# Altium schematic symbol library DC_converter_sch.SchLib: 31 symbols
Pins are listed as number, name and electrical type; pins without a type are passive.

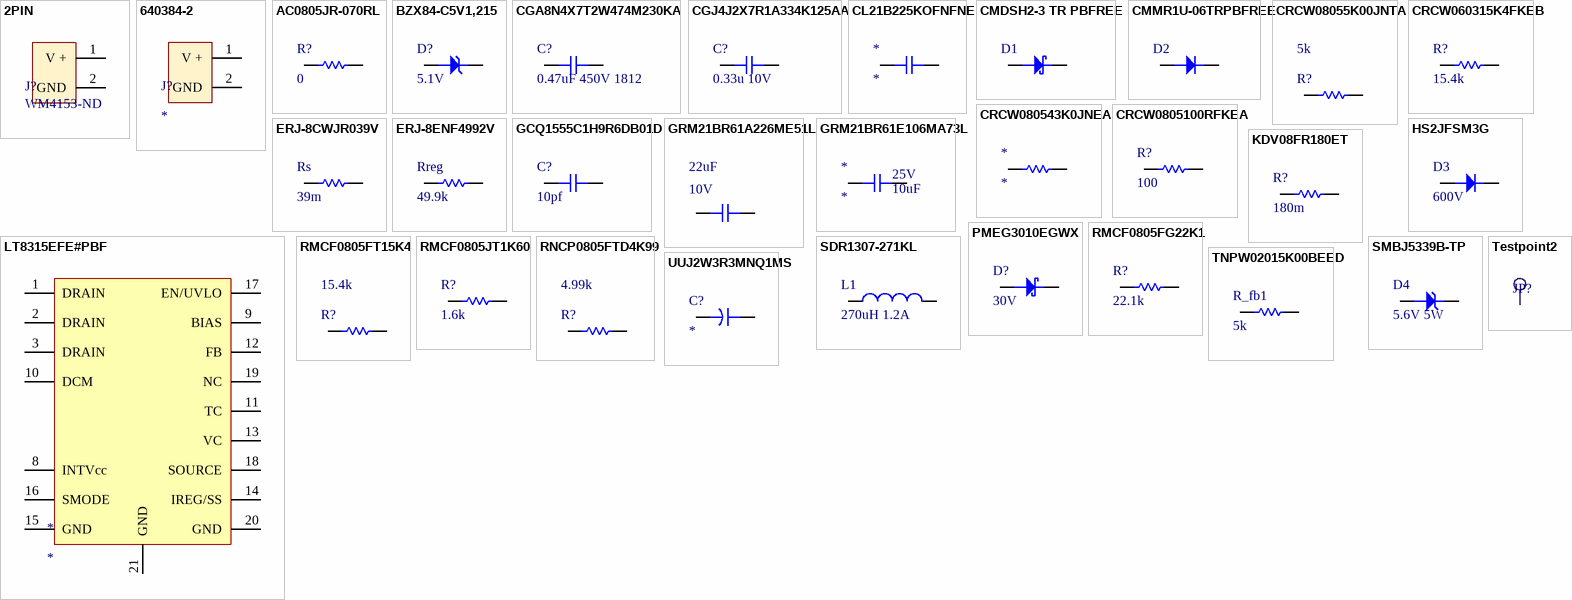
[diagram p0: symbols 2PIN to UUJ2W3R3MNQ1MS]

## 2PIN
designator J?, comment WM4153-ND
CONN HEADER R/A 2POS 2.54MM; Manufacturer: Molex; Manufacturer Part Number: 0705530106; Number of Positions: 2; Contact Resistance: 30mR; Connector Type: Male Pin; Supplier 1: Digi-Key; Stock 1: 2224; Pricing 1: 1=1.38, 10=1.25, 100=1.071, 500=0.8925, 1000=0.765, 5000=0.6783, 10000=0.663 (USD); Mount: Through Hole; Housing Material: Polyester; Contact Plating: Gold; Contact Material: Bronze; Color: Black; Housing Color: Black; Min Operating Temperature: -40°C; Max Operating Temperature: 105°C; Number of Rows: 1; Packaging: Rail/Tube; Termination: Solder; Number of Contacts: 2; Orientation: Right Angle; Length: 7.37mm; Pitch: 2.54mm; Depth: 13.59mm; Contact Mating Length: 0.24inch; ComponentLink1URL: http://www.molex.com/webdocs/datasheets/pdf/en-us/0705530106_PCB_HEADERS.pdf?src-supplier=Avnet+Asia; ComponentLink1Description: http://www.molex.com/webdocs/datasheets/pdf/en-us/0705530106_PCB_HEADERS.pdf?src-supplier=Avnet+Asia; ComponentLink2URL: https://www.molex.com/pdm_docs/ps/PS-70400.pdf?src-supplier=Digi-Key; ComponentLink2Description: https://www.molex.com/pdm_docs/ps/PS-70400.pdf?src-supplier=Digi-Key; Supplier Part Number 1: WM4153-ND
footprint 2PIN
pins: 1 V +, 2 GND

## 640384-2
designator J?
WIRE-BOARD CONNECTOR, HEADER, 2 POSITION, 0.156IN; Product Range:MTA-156 Series; Contact Termination Type:Through Hole; Gender:Header; No. of Contacts:2; Pitch Spacing:3.96mm; Contact Plating:Tin Plated Contacts; No. of Rows:1 ;RoHS Compliant: Yes; Manufacturer: TE Connectivity; Manufacturer Part Number: 640384-2; Underplate Material: Nickel; Current Rating: 7A; Voltage Rating: 600V; Number of Positions: 2; Connector Type: Pin; Connector System: Wire-to-Board; Contact Retention: No (Without); PCB Mount Retention: Without; Gender: Male; Contact Resistance: 3mR; Circuit Application: Power; PCB Mounting Orientation: Vertical; Pitch: 0.156inch; Contact Post Length: 3.18mm; PCB Thickness: 0.063inch; Approvals: CSA; Supplier 1: Digi-Key; RoHS: Yes; Category: Power Connectors; Stock 1: 1530; Pricing 1: 1=0.40000, 10=0.34400, 100=0.26720, 500=0.22904, 1000=0.19086, 5000=0.16360, 10000=0.15269 (USD); Mount: Through Hole; Color: Natural; Housing Color: White; Housing Material: Polyester; Contact Plating: Tin; Contact Material: Copper Alloy; Min Operating Temperature: -67°C; Max Operating Temperature: 221°C; Packaging: Bulk; Number of Rows: 1; Package Quantity: 2000; Max Voltage Rating (AC): 600V; Termination: Solder; Number of Contacts: 2; Orientation: Straight; Mating Alignment: No (Without); Mating Retention: No (Without); PCB Mount Alignment: No (Without); Sealable: No (Without); Strain Relief: No (Without); Contact Current Rating: 7A; Series: MTA-156; Contact Type: Male Pin; Shrouded: No (Without); Contact Gender: Male; Voltage Rating (AC): 600V; Backwall/Post Interruptions: No (Without); Number of Power Positions: 2; Length: 0.312inch; Depth: 6.35mm; Contact Mating Length: 0.4inch; Radiation Hardening: No; Flammability Rating: UL94 V-0; ELV: Compliant; Lead Free: Lead Free; RoHS Compliant: Yes; ComponentLink1URL: https://datasheet.ciiva.com/709/eng-cd-640384-ab-709714.pdf?src-supplier=Digi-Key; ComponentLink1Description: https://datasheet.ciiva.com/709/eng-cd-640384-ab-709714.pdf?src-supplier=Digi-Key; ComponentLink2URL: https://datasheet.ciiva.com/16408/eng-ds-82056-mta-0608-16408667.pdf?src-supplier=Future+Electronics; ComponentLink2Description: https://datasheet.ciiva.com/16408/eng-ds-82056-mta-0608-16408667.pdf?src-supplier=Future+Electronics; ComponentLink3URL: https://datasheet.ciiva.com/30155/8852eng-ds-82056-mta-0608-30155655.pdf?src-supplier=Onlinecomponents.com; ComponentLink3Description: https://datasheet.ciiva.com/30155/8852eng-ds-82056-mta-0608-30155655.pdf?src-supplier=Onlinecomponents.com; Supplier Part Number 1: A26168-ND
footprint Header
pins: 1 V +, 2 GND

## AC0805JR-070RL
designator R?, comment 0
Fixed Resistor, Metal Glaze/thick Film, 0.125W, 0ohm, Surface Mount, 0805; Manufacturer: Yageo; Manufacturer Part Number: AC0805JR-070RL; Power Rating: 125mW; Tolerance: 5%; Voltage Rating: 150V; Resistance: 0R; Temperature Coefficient: 200ppm/°C; Supplier 1: Digi-Key; RoHS: Yes; Category: Chip SMD Resistors; Stock 1: 12402; Pricing 1: 1=0.10000, 10=0.03700, 25=0.02680, 50=0.02040, 100=0.01500, 250=0.01148, 500=0.00918, 1000=0.00676 (USD); Case/Package: 0805; Case Code (Imperial): 0805; Case Code (Metric): 2012; Min Operating Temperature: -55°C; Max Operating Temperature: 155°C; Packaging: Tape and Reel; Resistor Type: Thick Film; Termination: SMD/SMT; Number of Terminations: 2; Max Power Dissipation: 125mW; Features: Moisture Resistant,Automotive AEC-Q200; Series: AC; Length: 0.079inch; Width: 1.25mm; Height: 0.024inch; Lead Free: Lead Free; ComponentLink1URL: http://www.yageo.com/NewPortal/yageodocoutput?fileName=/pdf/R-Chip/PYu-AC_51_RoHS_L_6.pdf&src-supplier=Digi-Key; ComponentLink1Description: http://www.yageo.com/NewPortal/yageodocoutput?fileName=/pdf/R-Chip/PYu-AC_51_RoHS_L_6.pdf&src-supplier=Digi-Key; ComponentLink2URL: http://www.yageo.com/documents/recent/PYu-AC_51_RoHS_L_2.pdf?src-supplier=Mouser; ComponentLink2Description: http://www.yageo.com/documents/recent/PYu-AC_51_RoHS_L_2.pdf?src-supplier=Mouser; Supplier Part Number 1: YAG3755CT-ND
footprint RES-0805 (Chip Resistor, 2-Leads, Body 2.00x1.25mm, IPC Medium Density)
pins: 1, 2

## BZX84-C5V1,215
designator D?, comment 5.1V
Zener Diode Single 5.1V 5% 60Ohm 250mW Automotive 3-Pin SOT-23 T/R; Manufacturer: Nexperia; Manufacturer Part Number: BZX84-C5V1,215; Supplier 1: Digi-Key; RoHS: Yes; Stock 1: 23070; Pricing 1: 1=0.14000, 10=0.12900, 100=0.07000, 500=0.04308, 1000=0.02937 (USD); RoHS Compliant: Yes; ComponentLink1URL: http://www.farnell.com/datasheets/2242065.pdf?src-supplier=Farnell; ComponentLink1Description: http://www.farnell.com/datasheets/2242065.pdf?src-supplier=Farnell; ComponentLink2URL: https://assets.nexperia.com/documents/data-sheet/BZX84_SER.pdf?src-supplier=Digi-Key; ComponentLink2Description: https://assets.nexperia.com/documents/data-sheet/BZX84_SER.pdf?src-supplier=Digi-Key; Supplier Part Number 1: 1727-2939-1-ND
footprint SOT95P230X110-3N (SOT23, 3-Leads, Body 2.90x2.30mm, Pitch 0.95mm, IPC Medium Density)
pins: 1, 2

## CGA8N4X7T2W474M230KA
designator C?, comment 0.47uF 450V 1812
Automotive Grade MLCC, 1812, X7T, 450V, 0.47 F, 20%, 2.30mm; Manufacturer: TDK; Manufacturer Part Number: CGA8N4X7T2W474M230KA; Capacitance: 470nF; Supplier 1: Digi-Key; RoHS: Yes; Category: Ceramic Capacitors; Stock 1: 1741; Pricing 1: 1=1.20000, 10=0.94400, 50=0.81800, 100=0.70780 (USD); Mount: Surface Mount; Case/Package: 1812; Case Code (Metric): 4532; Case Code (Imperial): 1812; Min Operating Temperature: -55°C; Max Operating Temperature: 125°C; Package Quantity: 500; Packaging: Tape and Reel; Tolerance: 20%; Voltage Rating: 450V; Series: CGA; Length: 0.177inch; Width: 0.126inch; Thickness: 0.098inch; Ratings: AEC-Q200; ComponentLink1URL: https://product.tdk.com/info/en/documents/chara_sheet/CGA8N4X7T2W474M230KA.pdf?src-supplier=Digi-Key; ComponentLink1Description: https://product.tdk.com/info/en/documents/chara_sheet/CGA8N4X7T2W474M230KA.pdf?src-supplier=Digi-Key; ComponentLink2URL: https://product.tdk.com/info/en/catalog/spec/mlccspec_automotive_general_midvoltage_en.pdf?src-supplier=Digi-Key; ComponentLink2Description: https://product.tdk.com/info/en/catalog/spec/mlccspec_automotive_general_midvoltage_en.pdf?src-supplier=Digi-Key; ComponentLink3URL: http://product.tdk.com/en/catalog/datasheets/mlcc_automotive_midvoltage_en.pdf?src-supplier=Avnet; ComponentLink3Description: http://product.tdk.com/en/catalog/datasheets/mlcc_automotive_midvoltage_en.pdf?src-supplier=Avnet; Supplier Part Number 1: 445-13132-1-ND
footprint CAPC4532X28N (Chip Capacitor, 2-Leads, Body 4.50x3.20mm, IPC Medium Density)
pins: 1, 2

## CGJ4J2X7R1A334K125AA
designator C?, comment 0.33u 10V
CAP CER 0.33UF 10V X7R 0805; Manufacturer: TDK; Manufacturer Part Number: CGJ4J2X7R1A334K125AA; Capacitance: 330nF; Tolerance: 10%; Ratings: COTS; Supplier 1: Digi-Key; RoHS: Yes; Category: Ceramic Capacitors; Stock 1: 991; Pricing 1: 1=0.37000, 10=0.26000, 50=0.18220, 100=0.15610, 500=0.11706, 1000=0.09886 (USD); Mount: Surface Mount; Case/Package: 0805; Case Code (Imperial): 0805; Case Code (Metric): 2012; Weight: 0.000194oz; Min Operating Temperature: -55°C; Max Operating Temperature: 125°C; Voltage Rating: 10V; Packaging: Tape and Reel; Termination: SMD/SMT; Series: CGJ; Voltage Rating (DC): 10V; Package Quantity: 1; Dielectric: X7R; Resistor Type: Ceramic; Length: 2mm; Width: 1.2mm; Height: 1.25mm; Thickness: 0.057inch; Depth: 1.25mm; Radiation Hardening: No; RoHS Compliant: Yes; ComponentLink1URL: https://datasheet.ciiva.com/15192/getdatasheetpartid-715821-15192531.pdf?src-supplier=Verical; ComponentLink1Description: https://datasheet.ciiva.com/15192/getdatasheetpartid-715821-15192531.pdf?src-supplier=Verical; Supplier Part Number 1: 445-8191-1-ND
footprint CAP-0805 (Chip Capacitor, 2-Leads, Body 2.00x1.25mm, IPC Medium Density)
pins: 1, 2

## CL21B225KOFNFNE
designator *
Cap Ceramic 2.2uF 16V X7R 10% SMD 0805 125C Embossed T/R; Manufacturer: Samsung; Manufacturer Part Number: CL21B225KOFNFNE; Supplier 1: Digi-Key; RoHS: Yes; Category: Ceramic Capacitors; Stock 1: 143505; Pricing 1: 1=0.16000, 10=0.11500, 50=0.06520, 100=0.05400, 500=0.03784, 1000=0.03133 (USD); Mount: Surface Mount; Case/Package: 0805; Case Code (Metric): 2012; Case Code (Imperial): 0805; Contact Plating: Tin; Min Operating Temperature: -55°C; Max Operating Temperature: 125°C; Package Quantity: 1; Packaging: Tape and Reel; Capacitance: 2.2uF; Tolerance: 10%; Voltage Rating: 16V; Dielectric: X7R; Series: CL; Construction: Flat; Length: 0.079inch; Width: 0.049inch; Height: 1.25mm; Thickness: 0.053inch; Depth: 1.25mm; Radiation Hardening: No; RoHS Compliant: Yes; ComponentLink1URL: https://datasheet.ciiva.com/25713/cl21b225kofnfne-25713539.pdf?src-supplier=Digi-Key; ComponentLink1Description: https://datasheet.ciiva.com/25713/cl21b225kofnfne-25713539.pdf?src-supplier=Digi-Key; Supplier Part Number 1: 1276-2956-1-ND
footprint CAP-0805 (Chip Capacitor, 2-Leads, Body 2.00x1.25mm, IPC Medium Density)
pins: 1, 2

## CMDSH2-3 TR PBFREE
designator D1
Silicon SCHOTTKY Diode High Current 30V 1A 2-Pin SOD-323 Surface Mount T/R  https://my.centralsemi.com/datasheets/CMDSH2-3.PDF; Manufacturer: Central Semiconductor; Manufacturer Part Number: CMDSH2-3 TR PBFREE; Supplier 1: Digi-Key; RoHS: Yes; Stock 1: 40881; Pricing 1: 1=0.65000, 10=0.57200, 100=0.43830, 500=0.34650, 1000=0.27720 (USD); RoHS Compliant: Yes; Supplier Part Number 1: 1514-CMDSH2-3TRPBFREECT-ND
footprint D1
pins: 1, 2

## CMMR1U-06TRPBFREE
designator D2
Diode Switching 600V 1A Automotive 2-Pin SOD-123F T/R. https://my.centralsemi.com/datasheets/CMMR1U_SERIES.PDF; Manufacturer: Central Semiconductor; Manufacturer Part Number: CMMR1U-06TRPBFREE; Forward Voltage: 1.7V; Peak Non-Repetitive Surge Current: 30A; Element Configuration: Single; Supplier 1: Digi-Key; RoHS: Yes; Category: Uncategorized; Stock 1: 10653; Pricing 1: 1=0.82000, 10=0.72600, 100=0.55660, 500=0.44000, 1000=0.35200 (USD); Mount: Surface Mount; Case/Package: SOD; Number of Pins: 2; Min Operating Temperature: -65°C; Max Operating Temperature: 150°C; Packaging: Tape and Reel; Radiation Hardening: No; RoHS Compliant: Yes; ComponentLink1URL: https://datasheet.ciiva.com/26939/getdatasheetpartid-707878-26939601.pdf?src-supplier=Verical; ComponentLink1Description: https://datasheet.ciiva.com/26939/getdatasheetpartid-707878-26939601.pdf?src-supplier=Verical; Supplier Part Number 1: 1514-CMMR1U-06TRPBFREECT-ND
footprint SODFL375X108-2N (SODFL, 2-Leads, Body 1.80x3.75mm, IPC Medium Density)
pins: 1, 2

## CRCW08055K00JNTA
designator R?  Resistance: 5k  (hidden comment: *)
Res SMD 5K Ohm 5% 1/8W 0805; Manufacturer: Vishay Dale; Manufacturer Part Number: CRCW08055K00JNTA; Power Rating: 125mW; Voltage Rating: 150V; Temperature Coefficient: 200ppm/°C; Supplier 1: Digi-Key; RoHS: No; Category: Chip SMD Resistors; Stock 1: 3439; Pricing 1: 1=0.14000, 10=0.12100, 100=0.04660, 1000=0.02049, 2500=0.01770 (USD); Case/Package: 0805; Weight: 0.000194oz; Case Code (Imperial): 0805; Case Code (Metric): 2012; Min Operating Temperature: -55°C; Max Operating Temperature: 155°C; Tolerance: 5%; Packaging: Tape and Reel; Package Quantity: 5000; Resistor Type: Thick Film; Number of Terminations: 2; Termination: SMD/SMT; Max Power Dissipation: 125mW; Features: Automotive AEC-Q200; Series: CRCW; Length: 0.079inch; Width: 0.049inch; Height: 0.02inch; Lead Free: Contains Lead; RoHS Compliant: No; ComponentLink1URL: http://www.mouser.com/ds/2/427/dcrcw-72725.pdf?src-supplier=Mouser; ComponentLink1Description: http://www.mouser.com/ds/2/427/dcrcw-72725.pdf?src-supplier=Mouser; ComponentLink2URL: http://www.vishay.com/docs/20008/dcrcw.pdf?src-supplier=Digi-Key; ComponentLink2Description: http://www.vishay.com/docs/20008/dcrcw.pdf?src-supplier=Digi-Key; Supplier Part Number 1: 541-CRCW08055K00JNTACT-ND
footprint RES-0805 (Chip Resistor, 2-Leads, Body 2.00x1.25mm, IPC Medium Density)
pins: 1, 2

## CRCW060315K4FKEB
designator R?, comment 15.4k
Thick Film Resistors 1/10watt 15.4Kohms 1%; Manufacturer: Vishay Dale; Manufacturer Part Number: CRCW060315K4FKEB; Resistance: 15.4kR; Power Rating: 100mW; Voltage Rating: 75V; Temperature Coefficient: 100ppm/°C; Supplier 1: Digi-Key; RoHS: Yes; Category: Chip SMD Resistors; Pricing 1: 1=0.10000, 10=0.03800, 100=0.01560, 1000=0.00701, 2500=0.00608, 5000=0.00503 (USD); Case/Package: 0603; Weight: 7.1E-05oz; Case Code (Imperial): 0603; Case Code (Metric): 1608; Min Operating Temperature: -55°C; Max Operating Temperature: 155°C; Tolerance: 1%; Packaging: Tape and Reel; Package Quantity: 10000; Resistor Type: Thick Film; Number of Terminations: 2; Termination: SMD/SMT; Max Power Dissipation: 100mW; Features: Automotive AEC-Q200; Series: CRCW; Length: 0.061inch; Width: 0.033inch; Height: 0.02inch; RoHS Compliant: Yes; Lead Free: Lead Free; ComponentLink1URL: https://datasheet.ciiva.com/5544/dcrcwe3-109170-5544853.pdf?src-supplier=Mouser; ComponentLink1Description: https://datasheet.ciiva.com/5544/dcrcwe3-109170-5544853.pdf?src-supplier=Mouser; Supplier Part Number 1: 541-CRCW060315K4FKEBDKR-ND
footprint CRCW060315K4FKEB (Chip Resistor, 2-Leads, Body 1.58x0.85mm, IPC Medium Density)
pins: 1, 2

## CRCW080543K0JNEA
designator *
Res Thick Film 0805 43K Ohm 5% 0.125W(1/8W) ±200ppm/C Molded SMD Automotive Paper T/R; Manufacturer: Vishay Dale; Manufacturer Part Number: CRCW080543K0JNEA; Resistance: 43kR; Temperature Coefficient: 200ppm/°C; Max Power Dissipation: 125mW; Voltage Rating: 150V; Supplier 1: Digi-Key; RoHS: Yes; Category: Chip SMD Resistors; Stock 1: 6239; Pricing 1: 1=0.10000, 10=0.05000, 100=0.02040, 1000=0.00914, 2500=0.00794 (USD); Case/Package: 0805; Number of Pins: 2; Weight: 0.000194oz; Case Code (Imperial): 0805; Case Code (Metric): 2012; Contact Plating: Tin; Size Code: 0805; Min Operating Temperature: -55°C; Max Operating Temperature: 155°C; Tolerance: 5%; Packaging: Tape and Reel; Package Quantity: 5000; Resistor Type: Thick Film; Features: Automotive AEC-Q200; Series: CRCW; Number of Terminations: 2; Power Rating: 125mW; Voltage Rating (DC): 150V; Resistance Tolerance: 5%; Construction: Rectangular; Length: 2mm; Width: 1.25mm; Height: 0.45mm; Depth: 1.25mm; Lead Free: Lead Free; RoHS Compliant: Yes; REACH SVHC: Unknown; Military Standard: Not; ComponentLink1URL: https://datasheet.ciiva.com/9008/dcrcwe3-9008904.pdf?src-supplier=Avnet; ComponentLink1Description: https://datasheet.ciiva.com/9008/dcrcwe3-9008904.pdf?src-supplier=Avnet; Supplier Part Number 1: 541-43KACT-ND
footprint RESC2012X05N (Chip Resistor, 2-Leads, Body 2.05x1.25mm, IPC Medium Density)
pins: 1, 2

## CRCW0805100RFKEA
designator R?, comment 100
Res Thick Film 0805 100 Ohm 1% 1/8W ±100ppm/°C Molded SMD Paper T/R; Manufacturer: Vishay Dale; Manufacturer Part Number: CRCW0805100RFKEA; Resistance: 100R; Power Rating: 125mW; Voltage Rating: 150V; Supplier 1: Digi-Key; RoHS: Yes; Category: Chip SMD Resistors; Stock 1: 14649; Pricing 1: 1=0.10000, 10=0.06700, 100=0.02710, 1000=0.01219, 2500=0.01058 (USD); Mount: Surface Mount; Case/Package: 0805; Number of Pins: 2; Contact Plating: Tin; Weight: 0.000194oz; Case Code (Metric): 2012; Case Code (Imperial): 0805; Size Code: 0805; Min Operating Temperature: -55°C; Max Operating Temperature: 155°C; Tolerance: 1%; Resistor Type: Thick Film; Temperature Coefficient: 100ppm/°C; Package Quantity: 10; Packaging: Tape and Reel; Number of Terminations: 2; Termination: SMD/SMT; Max Power Dissipation: 125mW; Voltage Rating (DC): 150V; Features: Automotive AEC-Q200; Series: CRCW; Technology: THICK FILM; Construction: Rectangular; Resistance Tolerance: 1%; Length: 2mm; Width: 0.049inch; Height: 0.45mm; Depth: 1.25mm; Radiation Hardening: No; Lead Free: Lead Free; RoHS Compliant: Yes; REACH SVHC: Unknown; Military Standard: Not; ComponentLink1URL: https://datasheet.ciiva.com/11809/0900766b80d98b26-11809126.pdf?src-supplier=RSComponents; ComponentLink1Description: https://datasheet.ciiva.com/11809/0900766b80d98b26-11809126.pdf?src-supplier=RSComponents; ComponentLink2URL: https://datasheet.ciiva.com/2495/dcrcwe3-2495843.pdf?src-supplier=Digi-Key; ComponentLink2Description: https://datasheet.ciiva.com/2495/dcrcwe3-2495843.pdf?src-supplier=Digi-Key; ComponentLink3URL: https://datasheet.ciiva.com/2495/dcrcwe3-2495844.pdf?src-supplier=Digi-Key; ComponentLink3Description: https://datasheet.ciiva.com/2495/dcrcwe3-2495844.pdf?src-supplier=Digi-Key; ComponentLink4URL: https://datasheet.ciiva.com/5546/dcrcwe3-109170-5546700.pdf?src-supplier=Mouser; ComponentLink4Description: https://datasheet.ciiva.com/5546/dcrcwe3-109170-5546700.pdf?src-supplier=Mouser; ComponentLink5URL: https://datasheet.ciiva.com/3258/dcrcwe3-3258011.pdf?src-supplier=Avnet; ComponentLink5Description: https://datasheet.ciiva.com/3258/dcrcwe3-3258011.pdf?src-supplier=Avnet; ComponentLink6URL: https://datasheet.ciiva.com/8337/dcrcwe3-8337753.pdf?src-supplier=Avnet; ComponentLink6Description: https://datasheet.ciiva.com/8337/dcrcwe3-8337753.pdf?src-supplier=Avnet; ComponentLink7URL: https://datasheet.ciiva.com/2495/dcrcwe3-2495842.pdf?src-supplier=Digi-Key; ComponentLink7Description: https://datasheet.ciiva.com/2495/dcrcwe3-2495842.pdf?src-supplier=Digi-Key; ComponentLink8URL: https://datasheet.ciiva.com/16514/dcrcwe3-16514904.pdf?src-supplier=Avnet+Asia; ComponentLink8Description: https://datasheet.ciiva.com/16514/dcrcwe3-16514904.pdf?src-supplier=Avnet+Asia; ComponentLink9URL: https://datasheet.ciiva.com/15159/getdatasheetpartid-90825-15159895.pdf?src-supplier=Verical; ComponentLink9Description: https://datasheet.ciiva.com/15159/getdatasheetpartid-90825-15159895.pdf?src-supplier=Verical; ComponentLink10URL: https://datasheet.ciiva.com/16760/70201119-16760940.pdf?src-supplier=Allied+Electronics; ComponentLink10Description: https://datasheet.ciiva.com/16760/70201119-16760940.pdf?src-supplier=Allied+Electronics; ComponentLink11URL: https://datasheet.ciiva.com/16777/70201119-16777129.pdf?src-supplier=Allied+Electronics; ComponentLink11Description: https://datasheet.ciiva.com/16777/70201119-16777129.pdf?src-supplier=Allied+Electronics; Supplier Part Number 1: 541-100CCT-ND
footprint RES-0805 (Chip Resistor, 2-Leads, Body 2.00x1.25mm, IPC Medium Density)
pins: 1, 2

## ERJ-8CWJR039V
designator Rs, comment 39m
Res Thick Film 1206 0.039 Ohm 5% 1W 50ppm/C Molded SMD SMD Punched Carrier T/R; Manufacturer: Panasonic; Manufacturer Part Number: ERJ-8CWJR039V; Resistance: 39mR; Temperature Coefficient: 75ppm/°C; Supplier 1: Digi-Key; RoHS: Yes; Category: Chip SMD Resistors; Stock 1: 4176; Pricing 1: 1=0.54000, 10=0.41700, 100=0.17540, 1000=0.09678, 2500=0.09074 (USD); Mount: Surface Mount; Case/Package: 1206; Case Code (Metric): 3216; Case Code (Imperial): 1206; Min Operating Temperature: -55°C; Max Operating Temperature: 125°C; Packaging: Tape and Reel; Power Rating: 1W; Tolerance: 5%; Resistor Type: Thick Film; Number of Terminations: 2; Max Power Dissipation: 1W; Features: Automotive AEC-Q200; Length: 0.126inch; Width: 0.063inch; Height: 0.03inch; ComponentLink1URL: https://media.digikey.com/pdf/Data%20Sheets/Panasonic%20Resistors%20Thermistors%20PDFs/ERJ-8CW_Series_LE.pdf?src-supplier=Digi-Key; ComponentLink1Description: https://media.digikey.com/pdf/Data%20Sheets/Panasonic%20Resistors%20Thermistors%20PDFs/ERJ-8CW_Series_LE.pdf?src-supplier=Digi-Key; ComponentLink2URL: http://www.mouser.com/ds/2/315/AOA0000C295-1109214.pdf?src-supplier=Mouser; ComponentLink2Description: http://www.mouser.com/ds/2/315/AOA0000C295-1109214.pdf?src-supplier=Mouser; ComponentLink3URL: http://www.onlinecomponents.com/datasheet/erj-8cwjr039v.aspx?p=44454211&src-supplier=Onlinecomponents.com; ComponentLink3Description: http://www.onlinecomponents.com/datasheet/erj-8cwjr039v.aspx?p=44454211&src-supplier=Onlinecomponents.com; ComponentLink4URL: https://industrial.panasonic.com/cdbs/www-data/pdf/RDN0000/AOA0000C313.pdf?src-supplier=Digi-Key; ComponentLink4Description: https://industrial.panasonic.com/cdbs/www-data/pdf/RDN0000/AOA0000C313.pdf?src-supplier=Digi-Key; ComponentLink5URL: http://industrial.panasonic.com/www-data/pdf/AOA0000/AOA0000CE3.pdf?src-supplier=Avnet; ComponentLink5Description: http://industrial.panasonic.com/www-data/pdf/AOA0000/AOA0000CE3.pdf?src-supplier=Avnet; Supplier Part Number 1: P0.039BWCT-ND; Supplier 2: Digi-Key; Stock 2: 4902; Pricing 2: 1=0.26000, 10=0.22000, 25=0.16000, 50=0.11600, 100=0.08600, 250=0.06600, 500=0.05200, 1000=0.03600 (USD); Supplier Part Number 2: 273-KDV06FR180ETCT-ND
footprint RESC3216X08N (Chip Resistor, 2-Leads, Body 3.20x1.60mm, IPC Medium Density)
pins: 1, 2

## ERJ-8ENF4992V
designator Rreg, comment 49.9k
RES SMD 49.9K OHM 1% 1/4W 1206; Manufacturer: Panasonic; Manufacturer Part Number: ERJ-8ENF4992V; Resistance: 49.9kR; Temperature Coefficient: 100ppm/°C; Voltage Rating: 200V; Power Rating: 250mW; Supplier 1: Digi-Key; RoHS: Yes; Category: Chip SMD Resistors; Stock 1: 75366; Pricing 1: 1=0.10000, 10=0.09300, 100=0.03560, 1000=0.01569, 2500=0.01355 (USD); Mount: Surface Mount; Case/Package: 1206; Contact Plating: Tin; Case Code (Metric): 3216; Case Code (Imperial): 1206; Min Operating Temperature: -55°C; Max Operating Temperature: 155°C; Tolerance: 1%; Resistor Type: Thick Film; Packaging: Tape and Reel; Package Quantity: 1; Number of Terminations: 2; Termination: SMD/SMT; Max Power Dissipation: 250mW; Voltage Rating (DC): 200V; Series: ERJ; Construction: Rectangular; Resistance Tolerance: 1%; Features: Automotive AEC-Q200; Length: 3.2mm; Width: 0.063inch; Height: 0.028inch; Depth: 1.6mm; Radiation Hardening: No; REACH SVHC: Unknown; Military Standard: Not; RoHS Compliant: Yes; Lead Free: Contains Lead; ComponentLink1URL: https://datasheet.ciiva.com/6064/426256-6064697.pdf?src-supplier=Farnell; ComponentLink1Description: https://datasheet.ciiva.com/6064/426256-6064697.pdf?src-supplier=Farnell; ComponentLink2URL: https://datasheet.ciiva.com/46377/426256-46377947.pdf?src-supplier=Element14; ComponentLink2Description: https://datasheet.ciiva.com/46377/426256-46377947.pdf?src-supplier=Element14; ComponentLink3URL: https://datasheet.ciiva.com/28548/1678782-28548377.pdf?src-supplier=Element14; ComponentLink3Description: https://datasheet.ciiva.com/28548/1678782-28548377.pdf?src-supplier=Element14; ComponentLink4URL: https://datasheet.ciiva.com/28694/1678782-28694249.pdf?src-supplier=Element14; ComponentLink4Description: https://datasheet.ciiva.com/28694/1678782-28694249.pdf?src-supplier=Element14; ComponentLink5URL: https://datasheet.ciiva.com/24026/aoa0000ce2-24026814.pdf?src-supplier=Mouser; ComponentLink5Description: https://datasheet.ciiva.com/24026/aoa0000ce2-24026814.pdf?src-supplier=Mouser; ComponentLink6URL: https://datasheet.ciiva.com/16772/70260748-16772229.pdf?src-supplier=Allied+Electronics; ComponentLink6Description: https://datasheet.ciiva.com/16772/70260748-16772229.pdf?src-supplier=Allied+Electronics; ComponentLink7URL: https://datasheet.ciiva.com/16724/70260748-16724652.pdf?src-supplier=Allied+Electronics; ComponentLink7Description: https://datasheet.ciiva.com/16724/70260748-16724652.pdf?src-supplier=Allied+Electronics; ComponentLink8URL: https://datasheet.ciiva.com/9189/aoa0000ce2-9189145.pdf?src-supplier=Avnet; ComponentLink8Description: https://datasheet.ciiva.com/9189/aoa0000ce2-9189145.pdf?src-supplier=Avnet; ComponentLink9URL: https://datasheet.ciiva.com/30219/aoa0000ce2-30219902.pdf?src-supplier=Onlinecomponents.com; ComponentLink9Description: https://datasheet.ciiva.com/30219/aoa0000ce2-30219902.pdf?src-supplier=Onlinecomponents.com; ComponentLink10URL: https://datasheet.ciiva.com/17209/aoa0000ce2-17209499.pdf?src-supplier=Avnet+Europe; ComponentLink10Description: https://datasheet.ciiva.com/17209/aoa0000ce2-17209499.pdf?src-supplier=Avnet+Europe; ComponentLink11URL: https://datasheet.ciiva.com/16513/aoa0000ce2-16513653.pdf?src-supplier=Avnet+Asia; ComponentLink11Description: https://datasheet.ciiva.com/16513/aoa0000ce2-16513653.pdf?src-supplier=Avnet+Asia; Supplier Part Number 1: P49.9KFCT-ND
footprint RESC3115X07N (Chip Resistor, 2-Leads, Body 3.13x1.55mm, IPC Medium Density)
pins: 1, 2

## GCQ1555C1H9R6DB01D
designator C?, comment 10pf
CAP CER 0805 10PF 25V; Manufacturer: Murata; Manufacturer Part Number: GCQ1555C1H9R6DB01D; Supplier 1: Arrow Electronics; RoHS: Yes; Category: Ceramic Capacitors; Stock 1: 10000; Pricing 1: 1=0.14620, 10=0.10040, 25=0.09950, 100=0.05630, 250=0.05570, 500=0.03880, 1000=0.03350, 3000=0.03160, 6000=0.02890, 10000=0.05540 (USD); Supplier Part Number 1: GCQ1555C1H9R6DB01D
footprint CAP-0805 (Chip Capacitor, 2-Leads, Body 2.00x1.25mm, IPC Medium Density)
pins: 1, 2

## GRM21BR61A226ME51L
designator C?  Voltage Rating: 10V  Capacitance: 22uF  (hidden comment: *)
CAP, MLCC, X5R, 22UF, 10V, 0805; Manufacturer: Murata; Manufacturer Part Number: GRM21BR61A226ME51L; Tolerance: 20%; Supplier 1: Digi-Key; RoHS: Yes; Category: Ceramic Capacitors; Stock 1: 665311; Pricing 1: 1=0.28000, 10=0.19200, 50=0.12800, 100=0.10890, 500=0.07684, 1000=0.06723 (USD); Mount: Surface Mount; Case/Package: 0805; Case Code (Metric): 2012; Case Code (Imperial): 0805; Weight: 0.000335oz; Min Operating Temperature: -55°C; Max Operating Temperature: 85°C; Dielectric: X5R; Packaging: Tape and Reel; Termination: SMD/SMT; Voltage Rating (DC): 10V; Package Quantity: 3000; Length: 2mm; Width: 0.049inch; Height: 1.25mm; Thickness: 0.055inch; Depth: 1.25mm; Radiation Hardening: No; REACH SVHC: No SVHC; Lead Free: Lead Free; RoHS Compliant: Yes; ComponentLink1URL: http://www.farnell.com/datasheets/1955716.pdf?src-supplier=Farnell; ComponentLink1Description: http://www.farnell.com/datasheets/1955716.pdf?src-supplier=Farnell; ComponentLink2URL: http://www.mouser.com/ds/2/281/c02e-2905.pdf?src-supplier=Mouser; ComponentLink2Description: http://www.mouser.com/ds/2/281/c02e-2905.pdf?src-supplier=Mouser; ComponentLink3URL: http://components.arrow.com/part/dataview/0323_06961245?src-supplier=Arrow+Europe; ComponentLink3Description: http://components.arrow.com/part/dataview/0323_06961245?src-supplier=Arrow+Europe; ComponentLink4URL: http://psearch.en.murata.com/capacitor/product/GRM21BR61A226ME51%23.html?src-supplier=Avnet; ComponentLink4Description: http://psearch.en.murata.com/capacitor/product/GRM21BR61A226ME51%23.html?src-supplier=Avnet; ComponentLink5URL: http://search.murata.co.jp/Ceramy/image/img/A01X/G101/ENG/GRM21BR61A226ME51-01.pdf?src-supplier=Digi-Key; ComponentLink5Description: http://search.murata.co.jp/Ceramy/image/img/A01X/G101/ENG/GRM21BR61A226ME51-01.pdf?src-supplier=Digi-Key; ComponentLink6URL: http://www.farnell.com/datasheets/1955716.pdf?src-supplier=Newark; ComponentLink6Description: http://www.farnell.com/datasheets/1955716.pdf?src-supplier=Newark; ComponentLink7URL: http://www.farnell.com/datasheets/1955716.pdf?src-supplier=Element14; ComponentLink7Description: http://www.farnell.com/datasheets/1955716.pdf?src-supplier=Element14; Supplier Part Number 1: 490-10511-1-ND
footprint CAP-0805 (Chip Capacitor, 2-Leads, Body 2.00x1.25mm, IPC Medium Density)
pins: 1, 2

## GRM21BR61E106MA73L
designator *  Voltage Rating: 25V  Capacitance: 10uF
Capacitor, 10 µF, 25 V, 0805 [2012 Metric], ± 20%, X5R, GRM Series; Manufacturer: Murata; Manufacturer Part Number: GRM21BR61E106MA73L; Supplier 1: Digi-Key; RoHS: Yes; Category: Ceramic Capacitors; Stock 1: 357812; Pricing 1: 1=0.26000, 10=0.17900, 50=0.11960, 100=0.10170, 500=0.07176, 1000=0.06279 (USD); Mount: Surface Mount; Case/Package: 0805; Case Code (Metric): 2012; Case Code (Imperial): 0805; Weight: 0.000335oz; Min Operating Temperature: -55°C; Max Operating Temperature: 85°C; Tolerance: 20%; Packaging: Tape and Reel; Dielectric: X5R; Termination: SMD/SMT; Resistor Type: Ceramic; Voltage Rating (DC): 25V; Package Quantity: 3000; Length: 2mm; Width: 0.049inch; Height: 1.25mm; Thickness: 0.055inch; Depth: 1.25mm; REACH SVHC: No SVHC; Lead Free: Lead Free; RoHS Compliant: Yes; ComponentLink1URL: http://www.farnell.com/datasheets/2079185.pdf?src-supplier=Farnell; ComponentLink1Description: http://www.farnell.com/datasheets/2079185.pdf?src-supplier=Farnell; ComponentLink2URL: http://www.mouser.com/ds/2/281/c02e-2905.pdf?src-supplier=Mouser; ComponentLink2Description: http://www.mouser.com/ds/2/281/c02e-2905.pdf?src-supplier=Mouser; ComponentLink3URL: http://components.arrow.com/part/dataview/0323_03061623?src-supplier=Arrow+Europe; ComponentLink3Description: http://components.arrow.com/part/dataview/0323_03061623?src-supplier=Arrow+Europe; ComponentLink4URL: https://search.murata.co.jp/Ceramy/image/img/A01X/G101/ENG/GRM21BR61E106MA73-01.pdf?src-supplier=Digi-Key; ComponentLink4Description: https://search.murata.co.jp/Ceramy/image/img/A01X/G101/ENG/GRM21BR61E106MA73-01.pdf?src-supplier=Digi-Key; ComponentLink5URL: http://www.farnell.com/datasheets/2079185.pdf?src-supplier=Element14; ComponentLink5Description: http://www.farnell.com/datasheets/2079185.pdf?src-supplier=Element14; Supplier Part Number 1: 490-10748-1-ND
footprint CAP-0805 (Chip Capacitor, 2-Leads, Body 2.00x1.25mm, IPC Medium Density)
pins: 1, 2

## HS2JFSM3G
designator D3, comment 600V
Manufacturer: Taiwan Semiconductor; Manufacturer Part Number: HS2JFSM3G; Supplier 1: DigiKey; RoHS: No; Stock 1: 3460; Pricing 1: 1=0.45000, 10=0.38700, 100=0.28900, 500=0.22704, 1000=0.17544 (USD); Supplier Part Number 1: 1801-HS2JFSM3GCT-ND
footprint D3
pins: 1, 2

## KDV08FR180ET
designator R?, comment 180m
0.18 Ohm 0805 1% 0.25W Rohs Compliant: Yes; Manufacturer: Ohmite; Manufacturer Part Number: KDV08FR180ET; Supplier 1: Digi-Key; RoHS: No; Category: Chip SMD Resistors; Stock 1: 15787; Pricing 1: 1=0.29000, 10=0.24200, 25=0.17600, 50=0.12760, 100=0.09460, 250=0.07260, 500=0.05720, 1000=0.03960 (USD); Supplier Part Number 1: 273-KDV08FR180ETCT-ND
footprint RES-0805 (Chip Resistor, 2-Leads, Body 2.00x1.25mm, IPC Medium Density)
pins: 1, 2

## LT8315EFE#PBF
designator *
IC REG CTRLR FLYBACK 20TSSOP; Manufacturer: Analog Devices / Linear Technology; Manufacturer Part Number: LT8315EFE#PBF; Supplier 1: Digi-Key; RoHS: Yes; Category: Voltage Regulators - Switching; Stock 1: 22; Pricing 1: 1=9.84000, 10=8.88800, 25=8.47480, 100=7.35850, 250=7.02780, 500=6.43500 (USD); RoHS Compliant: Yes; ComponentLink1URL: http://www.linear.com/docs/56703?src-supplier=Digi-Key; ComponentLink1Description: http://www.linear.com/docs/56703?src-supplier=Digi-Key; Supplier Part Number 1: LT8315EFE#PBF-ND
footprint TSOP65P650X120-20N (TSOP, 20-Leads, Body 6.50x4.40mm, Pitch 0.65mm, IPC Medium Density)
pins: 1 DRAIN, 2 DRAIN, 3 DRAIN, 8 INTVcc, 9 BIAS, 10 DCM, 11 TC, 12 FB, 13 VC, 14 IREG/SS, 15 GND, 16 SMODE, 17 EN/UVLO, 18 SOURCE, 19 NC, 20 GND, 21 GND

## PMEG3010EGWX
designator D?, comment 30V
Manufacturer: Nexperia; Manufacturer Part Number: PMEG3010EGWX; Supplier 1: Digi-Key; RoHS: Yes; Category: Schottky Diodes; Stock 1: 5980; Pricing 1: 1=0.31000, 10=0.25200, 100=0.13360, 500=0.08786, 1000=0.05975 (USD); RoHS Compliant: Yes; Supplier Part Number 1: 1727-7343-1-ND
footprint PMEG3010EGWX
pins: 1, 2

## RMCF0805FG22K1
designator R?, comment 22.1k
Res Thick Film 0805 22.1K Ohm 1% 1/8W 100ppm/C Molded SMD SMD Paper T/R; Manufacturer: Stackpole Electronics; Manufacturer Part Number: RMCF0805FG22K1; Resistance: 22.1kR; Max Power Dissipation: 125mW; Temperature Coefficient: 100ppm/°C; Supplier 1: Digi-Key; RoHS: Yes; Category: Chip SMD Resistors; Stock 1: 16110; Pricing 1: 1=0.10000, 10=0.02700, 100=0.01090, 1000=0.00488, 2500=0.00423, 5000=0.00350 (USD); Mount: Surface Mount; Case/Package: 0805; Case Code (Metric): 2012; Case Code (Imperial): 0805; Contact Plating: Tin,Matte; Min Operating Temperature: -55°C; Max Operating Temperature: 155°C; Package Quantity: 10000; Packaging: Tape and Reel; Tolerance: 1%; Resistor Type: Thick Film; Number of Terminations: 2; Features: Automotive AEC-Q200; Series: RMCF; Length: 0.079inch; Width: 0.049inch; Height: 0.026inch; Radiation Hardening: No; Lead Free: Lead Free; RoHS Compliant: Yes; ComponentLink1URL: https://www.seielect.com/catalog/SEI-RMCF_RMCP.pdf?src-supplier=Avnet; ComponentLink1Description: https://www.seielect.com/catalog/SEI-RMCF_RMCP.pdf?src-supplier=Avnet; ComponentLink2URL: http://www.seielect.com/Catalog/SEI-RMCF_RMCP.pdf?src-supplier=Digi-Key; ComponentLink2Description: http://www.seielect.com/Catalog/SEI-RMCF_RMCP.pdf?src-supplier=Digi-Key; ComponentLink3URL: https://www.seielect.com/catalog/SEI-Packaging.pdf?src-supplier=Digi-Key; ComponentLink3Description: https://www.seielect.com/catalog/SEI-Packaging.pdf?src-supplier=Digi-Key; ComponentLink4URL: https://www.seielect.com/Catalog/SEI-RMCF_RMCP.pdf?src-supplier=Digi-Key; ComponentLink4Description: https://www.seielect.com/Catalog/SEI-RMCF_RMCP.pdf?src-supplier=Digi-Key; Supplier Part Number 1: RMCF0805FG22K1CT-ND
footprint RESC2012X06N (21.1k)
pins: 1, 2

## RMCF0805FT15K4
designator R?  Resistance: 15.4k  (hidden comment: *)
RES 15.4K OHM 1% 1/8W 0805; Manufacturer: Stackpole Electronics; Manufacturer Part Number: RMCF0805FT15K4; Max Power Dissipation: 125mW; Temperature Coefficient: 100ppm/°C; Supplier 1: Digi-Key; RoHS: Yes; Category: Chip SMD Resistors; Stock 1: 4769; Pricing 1: 1=0.10000, 10=0.02700, 100=0.01090, 1000=0.00488, 2500=0.00423 (USD); Mount: Surface Mount; Case/Package: 0805; Case Code (Metric): 2012; Case Code (Imperial): 0805; Contact Plating: Tin,Matte; Min Operating Temperature: -55°C; Max Operating Temperature: 155°C; Tolerance: 1%; Packaging: Tape and Reel; Resistor Type: Thick Film; Number of Terminations: 2; Features: Automotive AEC-Q200; Series: RMCF; Construction: Rectangular; Length: 0.079inch; Width: 0.049inch; Height: 0.026inch; Depth: 1.25mm; Radiation Hardening: No; Military Standard: Not; RoHS Compliant: Yes; ComponentLink1URL: https://datasheet.ciiva.com/26835/getdatasheetpartid-701388-26835687.pdf?src-supplier=Verical; ComponentLink1Description: https://datasheet.ciiva.com/26835/getdatasheetpartid-701388-26835687.pdf?src-supplier=Verical; Supplier Part Number 1: RMCF0805FT15K4CT-ND
footprint RES-0805 (Chip Resistor, 2-Leads, Body 2.00x1.25mm, IPC Medium Density)
pins: 1, 2

## RMCF0805JT1K60
designator R?, comment 1.6k
Res Thick Film 0805 1.6K Ohm 5% 1/8W ±100ppm/°C Molded SMD SMD Paper T/R; Manufacturer: Stackpole Electronics; Manufacturer Part Number: RMCF0805JT1K60; Resistance: 1.6kR; Max Power Dissipation: 125mW; Temperature Coefficient: 200ppm/°C; Supplier 1: Digi-Key; RoHS: Yes; Category: Chip SMD Resistors; Stock 1: 7488; Pricing 1: 1=0.10000, 10=0.02000, 100=0.00810, 1000=0.00366, 2500=0.00318 (USD); Mount: Surface Mount; Case/Package: 0805; Case Code (Metric): 2012; Case Code (Imperial): 0805; Contact Plating: Tin,Matte; Min Operating Temperature: -55°C; Max Operating Temperature: 155°C; Tolerance: 5%; Packaging: Tape and Reel; Resistor Type: Thick Film; Number of Terminations: 2; Features: Automotive AEC-Q200; Series: RMCF; Length: 0.079inch; Width: 0.049inch; Height: 0.026inch; Radiation Hardening: No; RoHS Compliant: Yes; ComponentLink1URL: https://www.seielect.com/Catalog/SEI-RMCF_RMCP.pdf?src-supplier=Digi-Key; ComponentLink1Description: https://www.seielect.com/Catalog/SEI-RMCF_RMCP.pdf?src-supplier=Digi-Key; ComponentLink2URL: https://www.seielect.com/catalog/SEI-RMCF_RMCP.pdf?src-supplier=Avnet; ComponentLink2Description: https://www.seielect.com/catalog/SEI-RMCF_RMCP.pdf?src-supplier=Avnet; ComponentLink3URL: http://components.arrow.com/part/dataview/50587586S206405N1174?src-supplier=Arrow+Electronics; ComponentLink3Description: http://components.arrow.com/part/dataview/50587586S206405N1174?src-supplier=Arrow+Electronics; Supplier Part Number 1: RMCF0805JT1K60CT-ND
footprint RES-0805 (Chip Resistor, 2-Leads, Body 2.00x1.25mm, IPC Medium Density)
pins: 1, 2

## RNCP0805FTD4K99
designator R?  Resistance: 4.99k  (hidden comment: *)
Res Thin Film 0805 4.99K Ohm 1% 0.25W(1/4W) ±100ppm/°C Sulfur Resistant Pad SMD T/R; Manufacturer: Stackpole Electronics; Manufacturer Part Number: RNCP0805FTD4K99; Max Power Dissipation: 250mW; Supplier 1: Digi-Key; RoHS: Yes; Category: Chip SMD Resistors; Stock 1: 70656; Pricing 1: 1=0.10000, 10=0.07300, 100=0.02970, 1000=0.01336, 2500=0.01159 (USD); Mount: Surface Mount; Case/Package: 0805; Case Code (Metric): 2012; Case Code (Imperial): 0805; Contact Plating: Tin,Matte; Min Operating Temperature: -55°C; Max Operating Temperature: 155°C; Packaging: Tape and Reel; Tolerance: 1%; Resistor Type: Thin Film; Number of Terminations: 2; Temperature Coefficient: 100ppm/°C; Features: Moisture Resistant,Anti-Sulfur; Series: RNCP; Length: 0.079inch; Width: 0.049inch; Height: 0.024inch; Radiation Hardening: No; RoHS Compliant: Yes; ComponentLink1URL: http://www.seielect.com/Catalog/SEI-rncp.pdf?src-supplier=Avnet; ComponentLink1Description: http://www.seielect.com/Catalog/SEI-rncp.pdf?src-supplier=Avnet; ComponentLink2URL: http://www.seielect.com/Catalog/SEI-rncp.pdf?src-supplier=Digi-Key; ComponentLink2Description: http://www.seielect.com/Catalog/SEI-rncp.pdf?src-supplier=Digi-Key; ComponentLink3URL: https://www.seielect.com/catalog/SEI-Packaging.pdf?src-supplier=Digi-Key; ComponentLink3Description: https://www.seielect.com/catalog/SEI-Packaging.pdf?src-supplier=Digi-Key; Supplier Part Number 1: RNCP0805FTD4K99CT-ND
footprint RES-0805 (Chip Resistor, 2-Leads, Body 2.00x1.25mm, IPC Medium Density)
pins: 1, 2

## SDR1307-271KL
designator L1, comment 270uH 1.2A
FIXED IND 270UH 1.2A 410 MOHM; Manufacturer: Bourns; Manufacturer Part Number: SDR1307-271KL; Core Material: Ferrite; Saturation Current: 1.8A; Tolerance: 10%; Shielding: Unshielded; Self Resonant Frequency: 3.5MHz; Q Factor: 15; DC Resistance (DCR): 410mR; Test Frequency: 100kHz; Supplier 1: Digi-Key; RoHS: Yes; Category: Fixed Inductors; Stock 1: 932; Pricing 1: 1=1.10000, 10=1.02200, 25=0.94400, 50=0.78640, 100=0.73930 (USD); Mount: Surface Mount; Case/Package: Nonstandard; Min Operating Temperature: -40°C; Max Operating Temperature: 125°C; Package Quantity: 400; Current Rating: 1.2A; Packaging: Tape and Reel; Inductance Tolerance: 10%; Inductance: 270uH; Resistor Type: Wirewound; Max DC Current: 1.2A; Termination: SMD/SMT; DC Current: 1.2A; RMS Current (Irms): 1.2A; Series: SDR1307; Diameter: 13mm; Length: 0.512inch; Width: 0.512inch; Height: 0.276inch; Height - Seated (Max): 0.288inch; Radiation Hardening: No; REACH SVHC: No SVHC; Military Standard: Not; ComponentLink1URL: https://datasheet.ciiva.com/1060/sdr1307-1060134.pdf?src-supplier=Digi-Key; ComponentLink1Description: https://datasheet.ciiva.com/1060/sdr1307-1060134.pdf?src-supplier=Digi-Key; ComponentLink2URL: https://datasheet.ciiva.com/1060/sdr1307-1060135.pdf?src-supplier=Digi-Key; ComponentLink2Description: https://datasheet.ciiva.com/1060/sdr1307-1060135.pdf?src-supplier=Digi-Key; ComponentLink3URL: https://datasheet.ciiva.com/8515/sdr1307-8515135.pdf?src-supplier=Avnet; ComponentLink3Description: https://datasheet.ciiva.com/8515/sdr1307-8515135.pdf?src-supplier=Avnet; ComponentLink4URL: https://datasheet.ciiva.com/6708/sdr1307-6708549.pdf?src-supplier=Digi-Key; ComponentLink4Description: https://datasheet.ciiva.com/6708/sdr1307-6708549.pdf?src-supplier=Digi-Key; ComponentLink5URL: https://datasheet.ciiva.com/22715/1723200-22715551.pdf?src-supplier=Element14; ComponentLink5Description: https://datasheet.ciiva.com/22715/1723200-22715551.pdf?src-supplier=Element14; ComponentLink6URL: https://datasheet.ciiva.com/30244/sdr1307-30244511.pdf?src-supplier=Onlinecomponents.com; ComponentLink6Description: https://datasheet.ciiva.com/30244/sdr1307-30244511.pdf?src-supplier=Onlinecomponents.com; Supplier Part Number 1: SDR1307-271KLCT-ND
footprint PCBComponent_1
pins: 1, 2

## SMBJ5339B-TP
designator D4, comment 5.6V 5W
DIODE ZENER 5.6V 5W DO214AA; Manufacturer: MCC; Manufacturer Part Number: SMBJ5339B-TP; Tolerance: 5%; Forward Voltage: 1.2V; Max Reverse Leakage Current: 1uA; Impedance: 1R; Zener Current: 865mA; Test Current: 220mA; Element Configuration: Single; Supplier 1: Digi-Key; RoHS: Yes; Category: Zener Diodes; Pricing 1: 1=0.65000, 10=0.57400, 100=0.43970, 500=0.34760, 1000=0.27808 (USD); Mount: Surface Mount; Case/Package: DO-214AA; Number of Pins: 2; Min Operating Temperature: -55°C; Max Operating Temperature: 150°C; Package Quantity: 3000; Packaging: Tape and Reel; Power Dissipation: 5W; Zener Voltage: 5.6V; Voltage Tolerance: 5%; Max Power Dissipation: 5W; Working Voltage: 5.6V; Max Reverse Current: 1uA; Radiation Hardening: No; Lead Free: Lead Free; RoHS Compliant: Yes; ComponentLink1URL: https://datasheet.ciiva.com/894/smbj5338b-smbj5388bsmb-894185.pdf?src-supplier=Digi-Key; ComponentLink1Description: https://datasheet.ciiva.com/894/smbj5338b-smbj5388bsmb-894185.pdf?src-supplier=Digi-Key; ComponentLink2URL: https://datasheet.ciiva.com/894/smbj5338b-smbj5388bsmb-894186.pdf?src-supplier=Digi-Key; ComponentLink2Description: https://datasheet.ciiva.com/894/smbj5338b-smbj5388bsmb-894186.pdf?src-supplier=Digi-Key; ComponentLink3URL: https://datasheet.ciiva.com/894/smbj5338b-smbj5388bsmb-894187.pdf?src-supplier=Digi-Key; ComponentLink3Description: https://datasheet.ciiva.com/894/smbj5338b-smbj5388bsmb-894187.pdf?src-supplier=Digi-Key; ComponentLink4URL: https://datasheet.ciiva.com/17444/smbj5338b-smbj5388bsmb-17444281.pdf?src-supplier=Future+Electronics; ComponentLink4Description: https://datasheet.ciiva.com/17444/smbj5338b-smbj5388bsmb-17444281.pdf?src-supplier=Future+Electronics
footprint SMBJ5339B-TP
pins: 1, 2

## Testpoint2
designator JP?  (value not drawn)
Single layer pad TP
footprint TP2
pins: 1

## TNPW02015K00BEED
designator R_fb1, comment 5k
Manufacturer: Vishay Dale; Manufacturer Part Number: TNPW02015K00BEED; Supplier 1: Digi-Key; RoHS: No; Stock 1: 3323; Pricing 1: 1=0.48000, 10=0.36500, 100=0.15350, 1000=0.08467, 2500=0.07938, 5000=0.07144 (USD); Supplier Part Number 1: 541-TNPW02015K00BEEDCT-ND
footprint RESC0603X03N (Chip Resistor, 2-Leads, Body 0.60x0.30mm, IPC Medium Density)
pins: 1, 2

## UUJ2W3R3MNQ1MS
designator C?
Al Cap UJ series SMT 3.3uF 450V; Manufacturer: Nichicon; Manufacturer Part Number: UUJ2W3R3MNQ1MS; Tolerance: 20%; Ripple Current: 40mA; Polarity: Polar; Leakage Current: 100uA; Life (Hours): 5000Hour; Lead Diameter: 1.4mm; Supplier 1: Digi-Key; RoHS: Yes; Category: Aluminum Electrolytic Capacitors; Stock 1: 1639; Pricing 1: 1=1.50000, 10=1.18700, 50=1.02860, 100=0.89010 (USD); Mount: Surface Mount; Case/Package: Radial; Min Operating Temperature: -40°C; Max Operating Temperature: 105°C; Capacitance: 3.3uF; Voltage Rating (DC): 450V; Packaging: Tape and Reel; Package Quantity: 500; Voltage Rating: 450V; Termination: SMD/SMT; Voltage: 450V; Series: UJ; Construction: Cylindrical; Diameter: 12.5mm; Length: 13.5mm; Height: 13.5mm; Lead Pitch: 4mm; Height - Seated (Max): 0.571inch; Radiation Hardening: No; RoHS Compliant: Yes; ComponentLink1URL: https://datasheet.ciiva.com/11781/0900766b80fa39e6-11781932.pdf?src-supplier=RSComponents; ComponentLink1Description: https://datasheet.ciiva.com/11781/0900766b80fa39e6-11781932.pdf?src-supplier=RSComponents; ComponentLink2URL: https://datasheet.ciiva.com/11687/e-uj-11687990.pdf?src-supplier=Avnet; ComponentLink2Description: https://datasheet.ciiva.com/11687/e-uj-11687990.pdf?src-supplier=Avnet; Supplier Part Number 1: 493-16089-1-ND
footprint CAPAE125136X145M (Aluminum Electrolytic Capacitor, Body 13.60x13.60x14.50mm, IPC Low Density)
pins: 1, 2